# EAGLE library part E32_CAM (library kxnStandard_frame_mutilsensor)
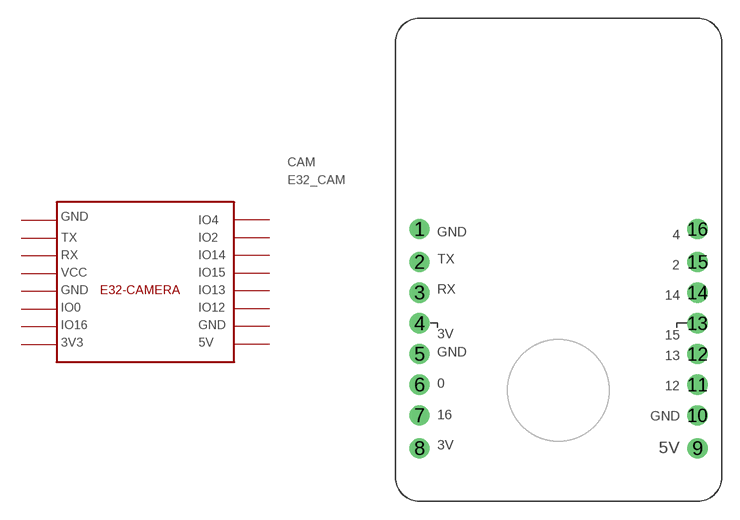
[diagram p3: symbol with the pads of E32_CAM; footprint E32_CAM]

Designator prefix CAM

## E32_CAM  [E32_CAM]
1  1
2  2
3  3
4  4
5  5
6  6
7  7
8  8
9  9
10  10
11  11
12  12
13  13
14  14
15  15
16  16

## Footprint E32_CAM (pad centres in mm)
drill 0.9 pad 1.676: 1 -11.5,22.54; 2 -11.5,19.82; 3 -11.5,17.28; 4 -11.5,14.74; 5 -11.5,12.2; 6 -11.5,9.66; 7 -11.5,7.12; 8 -11.5,4.4; 9 11.5,4.4; 10 11.5,7.12; 11 11.5,9.66; 12 11.5,12.2; 13 11.5,14.74; 14 11.5,17.28; 15 11.5,19.82; 16 11.5,22.54